# EAGLE library part SIM800C (library RadioShield)
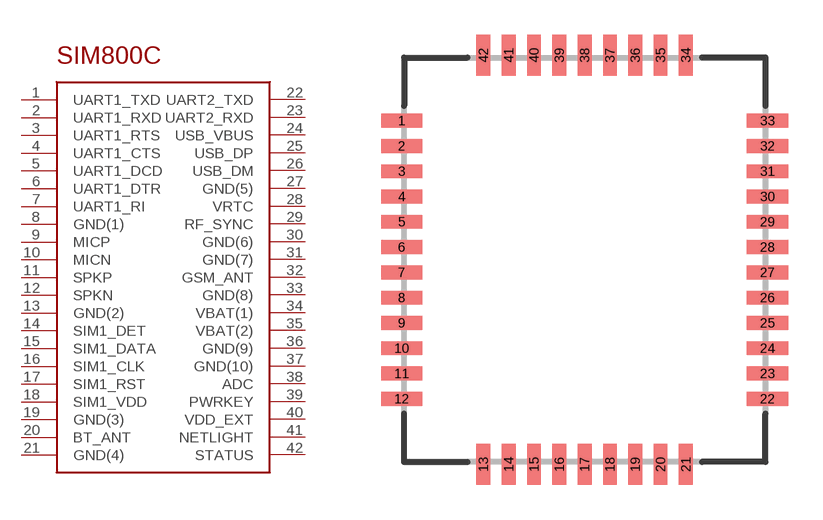
[diagram p7: symbol with the pads of SIM800C; footprint SIM800C]

Designator prefix IC

## SIM800C  [SIM800C]
1  UART1_TXD  in
2  UART1_RXD  in
3  UART1_RTS  in
4  UART1_CTS  in
5  UART1_DCD  in
6  UART1_DTR  in
7  UART1_RI  in
8  GND(1)  in
9  MICP  in
10  MICN  in
11  SPKP  in
12  SPKN  in
13  GND(2)  in
14  SIM1_DET  in
15  SIM1_DATA  in
16  SIM1_CLK  in
17  SIM1_RST  in
18  SIM1_VDD  in
19  GND(3)  in
20  BT_ANT  in
21  GND(4)  in
22  UART2_TXD  in
23  UART2_RXD  in
24  USB_VBUS  in
25  USB_DP  in
26  USB_DM  in
27  GND(5)  in
28  VRTC  in
29  RF_SYNC  in
30  GND(6)  in
31  GND(7)  in
32  GSM_ANT  in
33  GND(8)  in
34  VBAT(1)  in
35  VBAT(2)  in
36  GND(9)  in
37  GND(10)  in
38  ADC  in
39  PWRKEY  in
40  VDD_EXT  in
41  NETLIGHT  in
42  STATUS  in

## Footprint SIM800C (pad centres in mm)
smd 1.8 x 0.6: 1 -7.95,6.05; 2 -7.95,4.95; 3 -7.95,3.85; 4 -7.95,2.75; 5 -7.95,1.65; 6 -7.95,0.55; 7 -7.95,-0.55; 8 -7.95,-1.65; 9 -7.95,-2.75; 10 -7.95,-3.85; 11 -7.95,-4.95; 12 -7.95,-6.05; 22 7.95,-6.05; 23 7.95,-4.95; 24 7.95,-3.85; 25 7.95,-2.75; 26 7.95,-1.65; 27 7.95,-0.55; 28 7.95,0.55; 29 7.95,1.65; 30 7.95,2.75; 31 7.95,3.85; 32 7.95,4.95; 33 7.95,6.05
smd 0.6 x 1.8: 13 -4.4,-8.9; 14 -3.3,-8.9; 15 -2.2,-8.9; 16 -1.1,-8.9; 17 0,-8.9; 18 1.1,-8.9; 19 2.2,-8.9; 20 3.3,-8.9; 21 4.4,-8.9; 34 4.4,8.9; 35 3.3,8.9; 36 2.2,8.9; 37 1.1,8.9; 38 0,8.9; 39 -1.1,8.9; 40 -2.2,8.9; 41 -3.3,8.9; 42 -4.4,8.9